# Altium footprint library LCD.PcbLib: 36 footprints (part 3 of 3)
Each footprint in its own frame and in the unit in brackets; x right, y up, seen from the top. Pads: shape width x height; smd on the part's side, far side on the other; paste and mask are expansions set on the pad; w line width, h text height; cw(c..) or ccw(c..) is an arc to the next point about the centre after c.
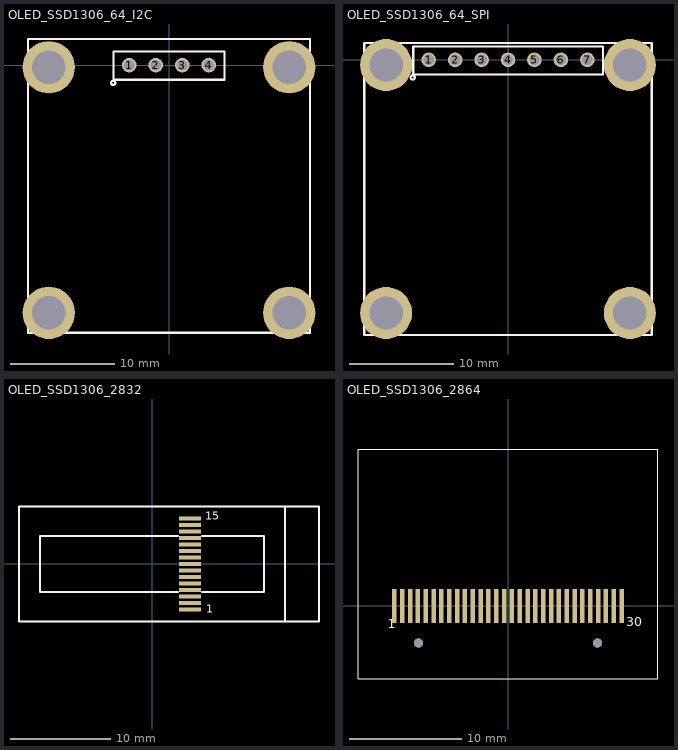
[diagram p2: the footprints below, top view; thin cyan lines are the x and y axes]

## OLED_SSD1306_64_I2C [mm] "OLED SS1306 Breakout, 128X64, I2C"
height 10
pads (8):
  round 1.4 / inner round 1.4 / far side oval 1.4x2.2 hole 1 mask+0.1: 1(-3.81,0) 2(-1.27,0) 3(1.27,0) 4(3.81,0)
  round 5 hole 3.2: ""(-11.5,-23.7) ""(-11.5,-0.2) ""(11.5,-23.7) ""(11.5,-0.2)
Top Overlay:
  circle w0.2: c-5.34,-1.7 r0.2
  lines w0.2: -13.5,-25.6 13.5,-25.6 13.5,2.5 -13.5,2.5 -13.5,-25.6 ; -5.3,-1.4 -5.3,1.3 5.3,1.3 5.3,-1.4 -5.3,-1.4
3D body "User Library-128x64I2COLEDDisplayAdafruit_SSD1306.step": height 13.97, standoff 3.13, extent -13.35,-25.5 13.35,2.36
3D body "female_header_a-bl254-eg-g02d.stp": height 8.5, standoff -3.2, extent -5.205,-1.3 0.125,1.2
3D body "female_header_a-bl254-eg-g02d.stp": height 8.5, standoff -3.2, extent -0.125,-1.3 5.205,1.2

## OLED_SSD1306_64_SPI [mm] "OLED SS1306 Breakout, 128X64, SPI"
height 10
pads (11):
  round 1.4 / inner round 1.4 / far side oval 1.4x2.2 hole 1 mask+0.1: 1(-7.62,0) 2(-5.08,0) 3(-2.54,0) 4(0,0) 5(2.54,0) 6(5.08,0) 7(7.62,0)
  round 5 hole 3.2: ""(-11.702,-24.3) ""(-11.702,-0.5) ""(11.698,-24.3) ""(11.698,-0.5)
Top Overlay:
  circle w0.2: c-9.15,-1.7 r0.2
  lines w0.2: -13.8,-26.4 13.8,-26.4 13.8,1.6 -13.8,1.6 -13.8,-26.4 ; -9.1,-1.4 9.1,-1.4 9.1,1.3 -9.1,1.3 -9.1,-1.4
3D body "female_header_a-bl254-eg-g02d.stp": height 8.5, standoff -3.2, extent -1.395,-1.3 3.935,1.2
3D body "female_header_a-bl254-eg-g03d.stp": height 8.5, standoff -3.2, extent -9.015,-1.3 -1.145,1.2
3D body "female_header_a-bl254-eg-g02d.stp": height 8.5, standoff -3.2, extent 3.685,-1.3 9.015,1.2
3D body "OLED128X64SPI.step": height 13.92, standoff 2.37, extent -13.7,-26.3 13.7,1.5

## OLED_SSD1306_2832 [mm] "OLED Display UG-2832HSWEG04"
height 10
pads (15):
  rect 2.2x0.4 smd: 1(3.802,-4.55) 2(3.802,-3.9) 3(3.802,-3.25) 4(3.802,-2.6) 5(3.802,-1.95) 6(3.802,-1.3) 7(3.802,-0.65) 8(3.802,0) 9(3.802,0.65) 10(3.802,1.3) 11(3.802,1.95) 12(3.802,2.6) 13(3.802,3.25) 14(3.802,3.9) 15(3.802,4.55)
Top Overlay:
  lines w0.2: 2.6,-2.8 -11.2,-2.8 -11.2,2.8 2.6,2.8 ; 5,-2.8 11.2,-2.8 11.2,2.8 5,2.8 ; 13.3,-5.75 13.3,5.75 ; -13.3,-5.75 16.7,-5.75 16.7,5.75 -13.3,5.75 -13.3,-5.75
  text "15" at 5.3,4.4 h0.8
  text "1" at 5.4,-4.9 h0.8
3D body "0.91in OLED - Folded - Without Glass.stp": height 3.51, standoff 1.22, extent -13.451,-5.605 21.451,5.9

## OLED_SSD1306_2864 [mm] "OLED Display UG-2864HMBEG01"
height 10
pads (32):
  rect 0.4x3 smd: 1(-10.15,0) 2(-9.45,0) 3(-8.75,0) 4(-8.05,0) 5(-7.35,0) 6(-6.65,0) 7(-5.95,0) 8(-5.25,0) 9(-4.55,0) 10(-3.85,0) 11(-3.15,0) 12(-2.45,0) 13(-1.75,0) 14(-1.05,0) 15(-0.35,0) 16(0.35,0) 17(1.05,0) 18(1.75,0) 19(2.45,0) 20(3.15,0) 21(3.85,0) 22(4.55,0) 23(5.25,0) 24(5.95,0) 25(6.65,0) 26(7.35,0) 27(8.05,0) 28(8.75,0) 29(9.45,0) 30(10.15,0)
  round 0.8 hole 0.8 unplated: ""(-8,-3.3) ""(8,-3.3)
Top Overlay:
  lines w0.1: -13.4,-6.5 -13.4,14 13.4,14 13.4,-6.5 -13.4,-6.5
  text "1" at -10.75,-2 h0.8
  text "30" at 10.55,-1.8 h0.8
3D body "OLED 128x64 ug-2864hsweg01 v15.step": height 3.3, standoff 0.05, extent -13.35,-6.45 13.35,13.96